# Altium footprint library PCB.PcbLib: 35 footprints (part 2 of 3)
Each footprint in its own frame and in the unit in brackets; x right, y up, seen from the top. Pads: shape width x height; smd on the part's side, far side on the other; paste and mask are expansions set on the pad; w line width, h text height; cw(c..) or ccw(c..) is an arc to the next point about the centre after c.
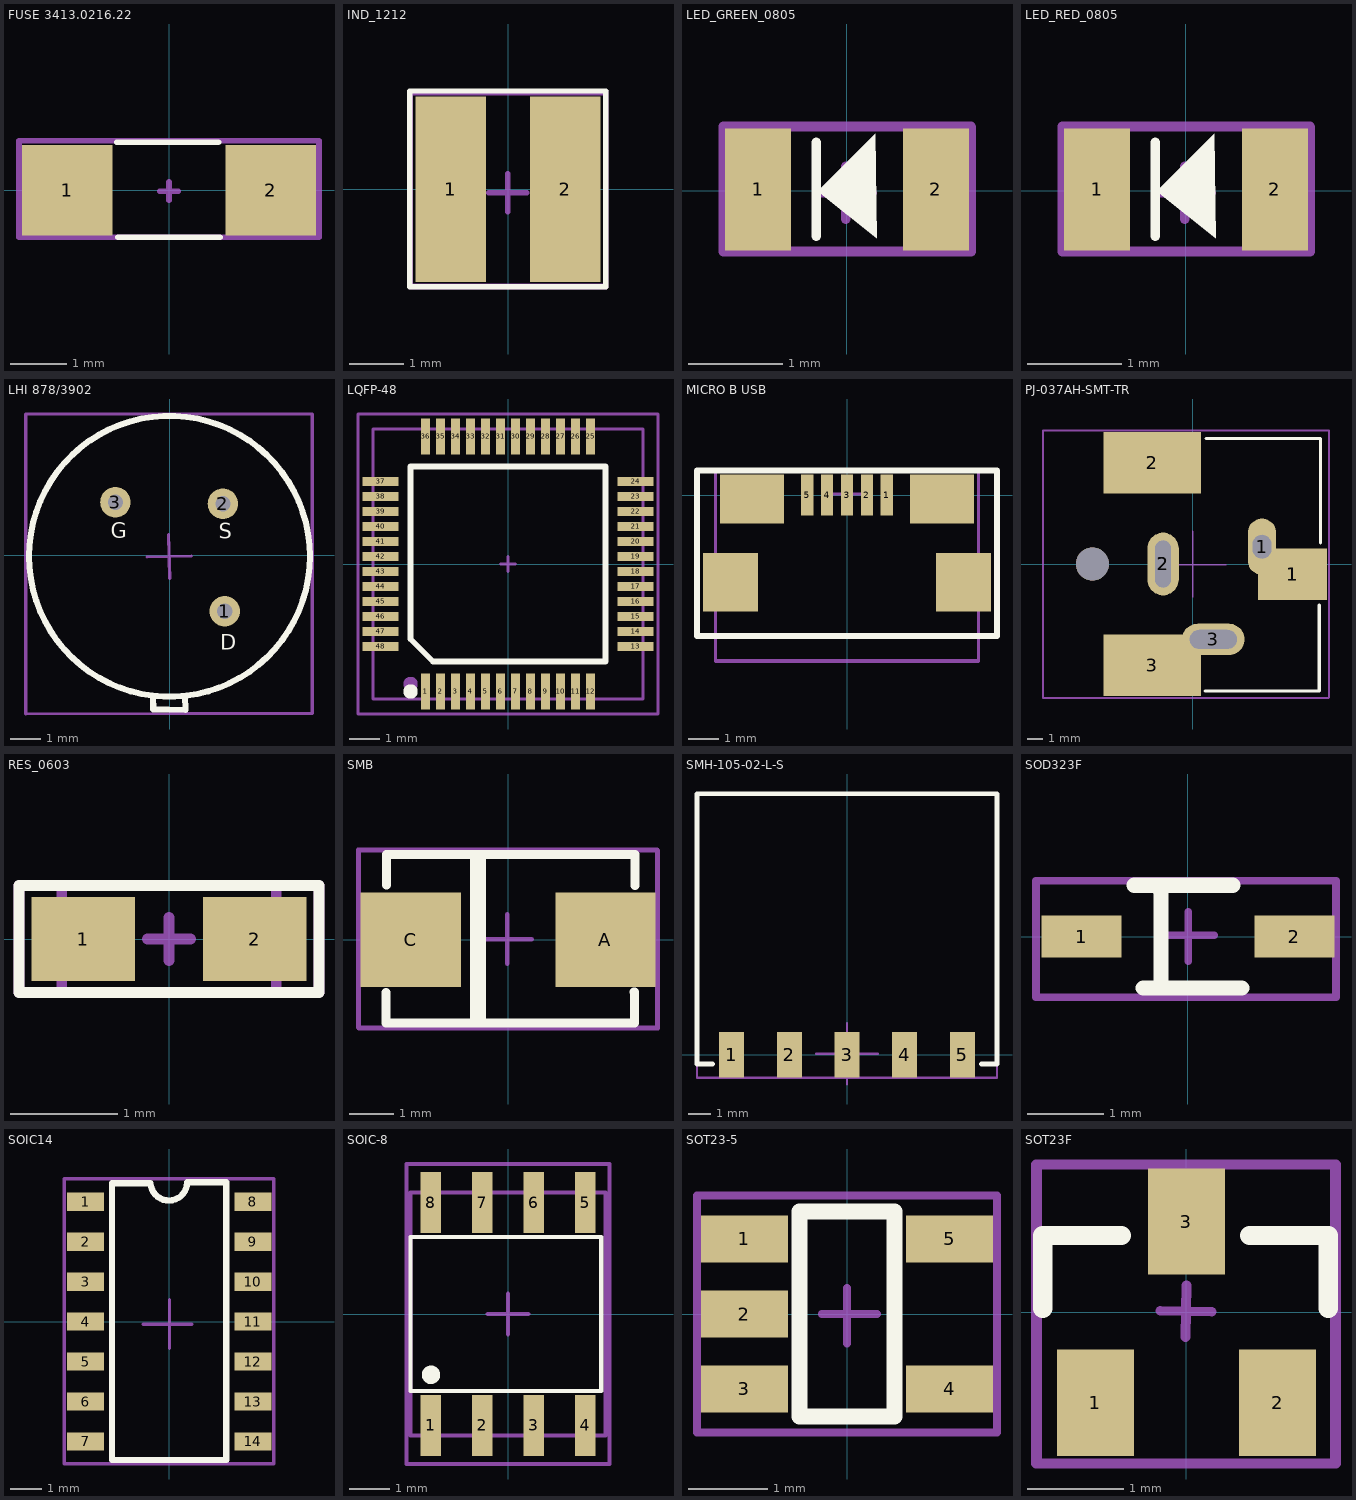
[diagram p1: the footprints below, top view; thin cyan lines are the x and y axes]

## FUSE 3413.0216.22 [mm]
pads (2):
  rect 1.6x1.6 smd mask+0.05: 1(-1.8,0) 2(1.8,0)
Top Overlay:
  lines w0.1: -0.925,0.85 0.875,0.85 ; -0.9,-0.825 0.9,-0.825
Top Component Center:
  lines w0.1: -0.162,-0.012 0.163,-0.012 ; 0,-0.175 0,0.15 ; -2.65,-0.825 2.65,-0.825 2.65,0.875 -2.65,0.875 -2.65,-0.825
Top Designator:
  lines w0.1: -2.65,-0.825 -2.65,0.875 2.65,0.875 2.65,-0.825 -2.65,-0.825
  text ".Designator" at -1.1,-0.183 h0.5
3D body "e_0100.3479_003.step": height 0.64, standoff 0, extent -1.649,-0.8 1.575,0.8

## IND_1212 [mm]
pads (2):
  rect 1.3x3.4 smd mask+0.05: 1(-1.05,0) 2(1.05,0)
Top Overlay:
  lines w0.1: -1.804,-1.784 -1.804,1.804 1.792,1.804 1.792,-1.784 -1.804,-1.784
Top Component Center:
  lines w0.1: -0.352,-0.059 0.347,-0.059 ; -0.003,-0.409 -0.003,0.29 ; -1.789,-1.789 -1.789,1.773 1.794,1.773 1.794,-1.789 -1.789,-1.789
Top Designator:
  lines w0.1: -1.791,-1.774 -1.791,1.787 1.792,1.787 1.792,-1.774 -1.791,-1.774
  text ".Designator" at -1.07,-0.208 h0.5
3D body "78438335010_Download_STP_WE-MAIA-3015_rev1.stp": height 1.2, standoff 0, extent -1.5,-1.5 1.5,1.5

## LED_GREEN_0805 [mm]
pads (2):
  rect 0.7x1.3 smd mask+0.05: 1(-0.939,0.013) 2(0.948,0.013)
Top Overlay:
  region: -0.304,-0.004 0.304,0.604 0.322,-0.505
  lines w0.1: -0.322,-0.486 -0.322,0.514
Top Component Center:
  lines w0.1: -0.289,-0.022 0.272,-0.022 ; -0.008,-0.303 -0.008,0.258 ; -1.31,-0.651 -1.31,0.681 1.324,0.681 1.324,-0.651 -1.31,-0.651
Top Designator:
  lines w0.1: -1.312,-0.646 1.322,-0.646 1.322,0.686 -1.312,0.686 -1.312,-0.646
  text ".Designator" at -1.073,-0.185 h0.5
3D body "SMD_0805LED_GREEN.STEP": height 1.1, standoff 0, extent -1.01,-0.625 1.01,0.625

## LED_RED_0805 [mm]
pads (2):
  rect 0.7x1.3 smd mask+0.05: 1(-0.939,0.013) 2(0.948,0.013)
Top Overlay:
  region: -0.304,-0.004 0.304,0.604 0.322,-0.505
  lines w0.1: -0.322,-0.486 -0.322,0.514
Top Component Center:
  lines w0.1: -0.289,-0.022 0.272,-0.022 ; -0.008,-0.303 -0.008,0.258 ; -1.31,-0.651 -1.31,0.681 1.324,0.681 1.324,-0.651 -1.31,-0.651
Top Designator:
  lines w0.1: -1.312,-0.646 1.322,-0.646 1.322,0.686 -1.312,0.686 -1.312,-0.646
  text ".Designator" at -1.073,-0.185 h0.5
3D body "SMD_0805LED_RED.STEP": height 1.1, standoff 0, extent -1.01,-0.625 1.01,0.625

## LHI 878/3902 [mm]
pads (3):
  round 1 hole 0.5 mask+0.05: 1(1.8,-1.84) 2(1.74,1.68) 3(-1.78,1.73)
Top Overlay:
  circle w0.2: c-0.01,-0.04 r4.6
  lines w0.2: -0.55,-4.62 -0.54,-5.05 0.51,-5.07 0.5,-4.63
  text "G" at -1.94,0.55 h0.5
  text "S" at 1.6,0.53 h0.5
  text "D" at 1.66,-3.1 h0.5
Top Component Center:
  lines w0.1: -0.745,-0.065 0.705,-0.025 ; -0.04,0.68 0,-0.77 ; -4.71,-5.2 -4.71,4.62 4.68,4.62 4.68,-5.18 -4.71,-5.2
Top Designator:
  lines w0.1: -4.73,-5.205 4.66,-5.185 4.66,4.615 -4.73,4.615 -4.73,-5.205
  text ".Designator" at -2.19,-0.327 h1
3D body "User Library-LHI878.step": height 4.6, standoff -2.4, extent -4.62,-5.109 4.58,4.52

## LQFP-48 [mm] "7x7 mm"
height 1.6
pads (48):
  rect 0.3x1.2 smd mask+0.05: 1(-2.75,-4.25) 2(-2.25,-4.25) 3(-1.75,-4.25) 4(-1.25,-4.25) 5(-0.75,-4.25) 6(-0.25,-4.25) 7(0.25,-4.25) 8(0.75,-4.25) 9(1.25,-4.25) 10(1.75,-4.25) 11(2.25,-4.25) 12(2.75,-4.25) 25(2.75,4.25) 26(2.25,4.25) 27(1.75,4.25) 28(1.25,4.25) 29(0.75,4.25) 30(0.25,4.25) 31(-0.25,4.25) 32(-0.75,4.25) 33(-1.25,4.25) 34(-1.75,4.25) 35(-2.25,4.25) 36(-2.75,4.25)
  rect 1.2x0.3 smd mask+0.05: 13(4.25,-2.75) 14(4.25,-2.25) 15(4.25,-1.75) 16(4.25,-1.25) 17(4.25,-0.75) 18(4.25,-0.25) 19(4.25,0.25) 20(4.25,0.75) 21(4.25,1.25) 22(4.25,1.75) 23(4.25,2.25) 24(4.25,2.75) 37(-4.25,2.75) 38(-4.25,2.25) 39(-4.25,1.75) 40(-4.25,1.25) 41(-4.25,0.75) 42(-4.25,0.25) 43(-4.25,-0.25) 44(-4.25,-0.75) 45(-4.25,-1.25) 46(-4.25,-1.75) 47(-4.25,-2.25) 48(-4.25,-2.75)
Top Overlay:
  circle w0.3: c-3.25,-4.25 r0.09
  lines w0.2: -3.25,-2.5 -2.5,-3.25 3.25,-3.25 3.25,3.25 -3.25,3.25 -3.25,-2.5
Top 3D BODY:
  circle w0.3: c-3.25,-4 r0.09
  lines w0.1: -4.5,-4.5 -4.5,4.5 4.5,4.5 4.5,-4.5 -4.5,-4.5
Top Component Center:
  lines w0.1: -0.25,0 0.25,0 ; 0,-0.25 0,0.25 ; -5,-5 -5,5 5,5 5,-5 -5,-5
Top Designator:
  lines w0.1: -5,-5 5,-5 5,5 -5,5 -5,-5
  text ".Designator" at -1.746,-0.738 h1.52
3D body "LQFP48.step": height 1.42, standoff -0.04, extent -4.5,-4.5 4.5,4.5

## MICRO B USB [mm]
pads (9):
  rect 0.4x1.35 smd mask+0.05: 1(1.3,0) 2(0.65,0) 3(0,0) 4(-0.65,0) 5(-1.3,0)
  rect 1.8x1.9 smd mask+0.05: ""(-3.8,-2.85) ""(3.8,-2.85)
  rect 2.1x1.6 smd mask+0.05: ""(-3.1,-0.125) ""(3.1,-0.125)
Top Overlay:
  lines w0.2: -4.9,-4.6 -4.9,0.8 4.9,0.8 4.9,-4.6 -4.9,-4.6
Top Component Center:
  lines w0.1: -0.606,0.032 0.594,0.032 ; 0,-0.6 0,0.6 ; -4.3,-5.4 -4.3,0.8 4.3,0.8 4.3,-5.4 -4.3,-5.4
Top Designator:
  lines w0.1: -4.3,-5.432 -4.3,0.768 4.3,0.768 4.3,-5.432 -4.3,-5.432
  text ".Designator" at -3.546,-0.813 h1.3
3D body "10118192C.stp": height 2.74, standoff -0.27, extent -3.956,-5.4 3.956,0.261

## PJ-037AH-SMT-TR [mm]
pads (9):
  oval 1.8x3.6 hole 1.2 slot 1.5 at 90 deg: 1(4.425,1.1)
  rect 4.4x3.3 smd: 1(6.375,-0.65) 1(6.375,-0.65)
  rect 6.2x3.9 smd: 2(-2.575,6.45) 3(-2.575,-6.45)
  oval 2x4 hole 1 slot 3 at 90 deg: 2(-1.875,0) 2(-1.875,0)
  oval 4x2 hole 1.2 slot 3 at 0 deg: 3(1.325,-4.8)
  round 2.1 hole 2.1 unplated: ""(-6.375,0)
Top Overlay:
  lines w0.2: 0.8,-8.09 8.07,-8.09 8.07,-2.6 ; 0.85,7.98 8.15,7.98 8.15,1.34
Top Component Center:
  lines w0.1: -2.072,-0.04 2.138,-0.04 ; 0.02,-2.12 0.02,2.09 ; -9.509,-8.523 8.69,-8.523 8.69,8.51 -9.509,8.51 -9.509,-8.523
Top Designator:
  lines w0.1: -9.519,-8.533 8.68,-8.533 8.68,8.5 -9.519,8.5 -9.519,-8.533
  text ".Designator" at -3.606,-0.798 h1.52
3D body "CUI_DEVICES_PJ-037AH-SMT-TR.step": height 11.09, standoff -3.31, extent -9.507,-7.56 7.593,7.64

## RES_0603 [mil]
pads (2):
  rect 38x31 smd mask+1.97: 1(-31.5,0) 2(31.5,0)
Top Overlay:
  lines w3.94: -55.12,-19.68 -55.12,19.68 55.12,19.68 55.12,-19.68 -55.12,-19.68
Top 3D BODY:
  lines w3.94: -39.37,-19.68 39.37,-19.68 39.37,19.68 -39.37,19.68 -39.37,-19.68
Top Component Center:
  lines w3.94: -7.87,0 7.87,0 ; 0,-7.87 0,7.87 ; -55.12,-19.68 -55.12,19.68 55.12,19.68 55.12,-19.68 -55.12,-19.68
Top Designator:
  lines w3.94: -55.12,-19.68 -55.12,19.68 55.12,19.68 55.12,-19.68 -55.12,-19.68
  text ".Designator" at -20.08,-6.96 h15.75
3D body "0603S1.STEP": height 16.89, standoff -0.83, extent -38.92,-18.88 38.92,19.68

## SMB [mm]
pads (2):
  rect 2.25x2.12 smd mask+0.05: A(2.185,0) C(-2.185,0)
Top Overlay:
  rectangle: -0.857,-1.842 -0.493,1.854
  lines w0.2: -2.741,-1.186 -2.741,-1.876 2.843,-1.876 2.843,-1.175 2.832,-1.175 ; -2.729,1.222 -2.729,1.912 2.855,1.912 2.855,1.211 2.844,1.211
Top Component Center:
  lines w0.1: -0.571,0.012 0.537,0.012 ; -0.017,-0.542 -0.017,0.566 ; -3.356,-1.988 3.367,-1.988 3.367,2 -3.356,2 -3.356,-1.988
Top Designator:
  lines w0.1: -3.369,-1.974 3.354,-1.974 3.354,2.014 -3.369,2.014 -3.369,-1.974
  text ".Designator" at -2.242,-0.355 h1
3D body "1SMB5919BT3G.STEP": height 2.44, standoff -0.03, extent -2.662,-1.774 2.778,1.786

## SMH-105-02-L-S [mm]
pads (5):
  rect 1.1x2 smd mask+0.05: 1(-5.08,0) 2(-2.54,0) 3(0,0) 4(2.54,0) 5(5.08,0)
Top Overlay:
  lines w0.2: -5.9,-0.4 -6.6,-0.4 -6.6,11.5 6.6,11.5 6.6,-0.4 5.9,-0.4
Top Component Center:
  lines w0.1: -1.35,0.05 1.35,0.05 ; 0,-1.3 0,1.4 ; -6.6,-1 -6.6,11.5 6.6,11.5 6.6,-1 -6.6,-1
Top Designator:
  lines w0.1: -6.6,-1 -6.6,11.45 6.6,11.45 6.6,-1 -5.9,-1 -6.6,-1
  text ".Designator" at -3.146,4.362 h1.52
3D body "SMH-105-02-L-S.stp": height 2.41, standoff -0.01, extent -6.584,-0.429 6.624,11.509

## SOD323F [mm]
pads (2):
  rect 1.05x0.55 smd mask+0.05: 1(-1.4,0) 2(1.4,0)
Top Overlay:
  lines w0.2: -0.707,0.674 0.589,0.674 ; -0.588,-0.676 0.708,-0.676 ; -0.417,0.663 -0.356,0.663 -0.356,-0.647
Top Component Center:
  lines w0.1: -0.305,0.016 0.344,0.016 ; 0.003,-0.324 0.003,0.325 ; -1.997,-0.796 -1.997,0.732 1.948,0.732 1.948,-0.796 -1.997,-0.796
Top Designator:
  lines w0.1: -1.999,-0.797 -1.999,0.731 1.946,0.731 1.946,-0.797 -1.999,-0.797
  text ".Designator" at -1.78,-0.231 h0.8
3D body "User Library-SOD323F-1.step": height 1, standoff 0, extent -1.25,-0.675 1.25,0.675

## SOIC14 [mm]
pads (14):
  rect 1.18x0.58 smd mask+0.05: 1(-2.66,3.81) 2(-2.66,2.54) 3(-2.66,1.27) 4(-2.66,0) 5(-2.66,-1.27) 6(-2.66,-2.54) 7(-2.66,-3.81) 8(2.66,3.81) 9(2.66,2.54) 10(2.66,1.27) 11(2.66,0) 12(2.66,-1.27) 13(2.66,-2.54) 14(2.66,-3.81)
Top Overlay:
  lines w0.2: -0.594,4.4 -1.823,4.4 -1.823,-4.4 1.811,-4.4 1.811,4.428 0.567,4.428 cw(c-0.014,4.428) -0.594,4.4
Top Component Center:
  lines w0.1: -0.836,-0.082 0.72,-0.082 ; 0.004,-0.852 0.004,0.704 ; -3.338,-4.507 -3.338,4.547 3.326,4.547 3.326,-4.507 -3.338,-4.507
Top Designator:
  lines w0.1: -3.342,-4.525 -3.342,4.529 3.322,4.529 3.322,-4.525 -3.342,-4.525
  text ".Designator" at -2.7,-0.967 h1
3D body "User Library-so14-1.step": height 1.7, standoff 0, extent -3,-4.4 3,4.4

## SOIC-8 [mm]
pads (8):
  rect 0.5x1.5 smd mask+0.05: 1(-1.905,-2.75) 2(-0.635,-2.75) 3(0.635,-2.75) 4(1.905,-2.75) 5(1.905,2.75) 6(0.635,2.75) 7(-0.635,2.75) 8(-1.905,2.75)
Top Overlay:
  circle w0.254: c-1.9,-1.5 r0.1
  lines w0.1: -2.4,-1.9 2.3,-1.9 2.3,1.9 -2.4,1.9 -2.4,-1.9
Top 3D BODY:
  circle w0.254: c-1.9,-2.7 r0.1
  lines w0.1: -2.4,-3 -2.4,3 2.4,3 2.4,-3 -2.4,-3
Top Component Center:
  lines w0.1: -0.5,0 0.5,0 ; 0,-0.5 0,0.5 ; -2.5,-3.7 2.5,-3.7 2.5,3.7 -2.5,3.7 -2.5,-3.7
Top Designator:
  lines w0.1: -2.5,-3.7 2.5,-3.7 2.5,3.7 -2.5,3.7 -2.5,-3.7
  text ".Designator" at 0.467,-1.3 h1
3D body "SOIC-8-1.step": height 1.75, standoff 0, extent -2.45,-3 2.45,3

## SOT23-5 [mm]
pads (5):
  rect 1.1x0.6 smd mask+0.05: 1(-1.3,0.95) 2(-1.3,0) 3(-1.3,-0.95) 4(1.3,-0.95) 5(1.3,0.95)
Top Overlay:
  lines w0.2: -0.6,-1.3 -0.6,1.3 0.6,1.3 0.6,-1.3 -0.6,-1.3
Top Component Center:
  lines w0.1: -0.32,0 0.38,0 ; 0,-0.372 0,0.328 ; -1.9,-1.5 1.9,-1.5 1.9,1.5 -1.9,1.5 -1.9,-1.5
Top Designator:
  lines w0.1: -1.9,-1.5 1.9,-1.5 1.9,1.5 -1.9,1.5 -1.9,-1.5
  text ".Designator" at -1.8,-0.517 h1
3D body "OPA314AIDBVR.STEP": height 1.45, standoff 0, extent -1.4,-1.45 1.4,1.45

## SOT23F [mm]
pads (3):
  rect 0.8x1.11 smd mask+0.05: 1(-0.95,-0.945) 2(0.95,-0.945) 3(0,0.945)
Top Overlay:
  lines w0.2: -1.5,0.04 -1.5,0.8 -0.68,0.8 ; 0.66,0.8 1.48,0.8 1.48,0.04
Top Component Center:
  lines w0.1: -1.56,1.54 -1.56,-1.58 1.55,-1.58 1.55,1.54 -1.52,1.54 ; -0.275,0.015 0.265,0.005 ; -0.01,-0.26 0,0.28
Top Designator:
  lines w0.1: -1.57,1.54 -1.57,-1.58 1.56,-1.58 1.56,1.54 -1.53,1.54
  text "'.Designator'" at -1.42,-0.193 h0.5
3D body "SOT23-3.stp": height 1.2, standoff 0.02, extent -1.5,-1.418 1.5,1.418